# EAGLE library part SCREW_TERMINAL (library netnode)
SCREW TERMINAL Farnell: 3041438
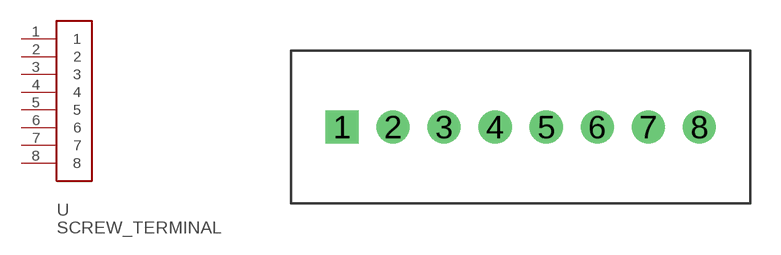
[diagram p8: symbol with the pads of SCREW_TERMINAL_8PINS; footprint SCREW_TERMINAL_8PINS]

Designator prefix -

## SCREW_TERMINAL  [SCREW_TERMINAL_8PINS]
1  1
2  2
3  3
4  4
5  5
6  6
7  7
8  8

## Footprint SCREW_TERMINAL_8PINS (pad centres in mm)
drill 1.1 square: 1 0,0
drill 1.1: 2 2.54,0; 3 5.08,0; 4 7.62,0; 5 10.16,0; 6 12.7,0; 7 15.24,0; 8 17.78,0